# Altium footprint library 11-pin_Header_Pcb.PcbLib: 1 footprints
Each footprint in its own frame and in the unit in brackets; x right, y up, seen from the top. Pads: shape width x height; smd on the part's side, far side on the other; paste and mask are expansions set on the pad; w line width, h text height; cw(c..) or ccw(c..) is an arc to the next point about the centre after c.
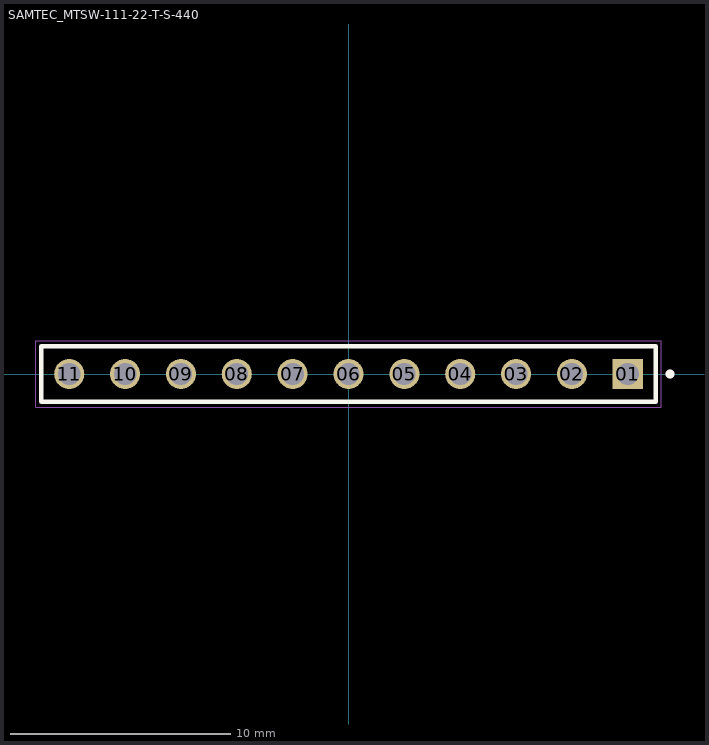
[diagram p0: the footprint, top view; thin cyan lines are the x and y axes]

## SAMTEC_MTSW-111-22-T-S-440 [mm]
pads (11):
  rect 1.37x1.37 / inner round 1.37 / far side rect 1.37x1.37 hole 1.02: 01(12.7,0)
  round 1.37 hole 1.02: 02(10.16,0) 03(7.62,0) 04(5.08,0) 05(2.54,0) 06(0,0) 07(-2.54,0) 08(-5.08,0) 09(-7.62,0) 10(-10.16,0) 11(-12.7,0)
Top Overlay:
  circle w0.2: c14.62,0 r0.1
  lines w0.2: -13.97,-1.27 -13.97,1.27 13.97,1.27 13.97,-1.27 -13.97,-1.27
Mechanical 13:
  circle w0.2: c14.62,0 r0.1
  lines w0.1: -13.97,-1.27 -13.97,1.27 ; -13.97,-1.27 13.97,-1.27 ; -13.97,-1.27 -13.97,1.27 ; -13.97,1.27 13.97,1.27 ; -13.97,1.27 13.97,1.27 ; 13.97,-1.27 13.97,1.27 ; 13.97,-1.27 13.97,1.27
Mechanical 15:
  lines w0.05: -14.22,-1.52 -14.22,1.52 14.22,1.52 14.22,-1.52 -14.22,-1.52